# EAGLE library part SPARKFUN-SENSORS_MPU-9250 (library cortex-mpu)
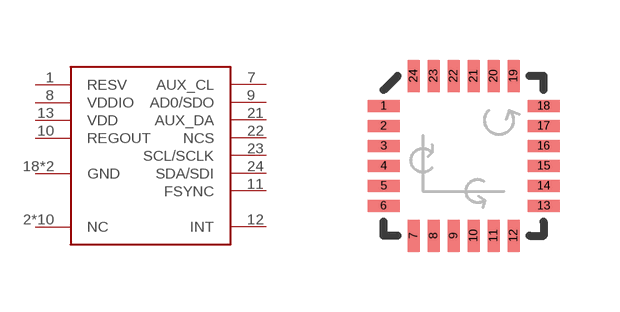
[diagram p3: symbol with the pads of SPARKFUN-SENSORS_QFN-24-NP; footprint SPARKFUN-SENSORS_QFN-24-NP]

Designator prefix -

## SPARKFUN-SENSORS_MPU-9250  [SPARKFUN-SENSORS_QFN-24-NP]
1  RESV
2  NC
3  NC
4  NC
5  NC
6  NC
7  AUX_CL
8  VDDIO
9  AD0/SDO
10  REGOUT
11  FSYNC
12  INT
13  VDD
14  NC
15  NC
16  NC
17  NC
18  GND
19  NC
20  GND
21  AUX_DA
22  NCS
23  SCL/SCLK
24  SDA/SDI

## Footprint SPARKFUN-SENSORS_QFN-24-NP (pad centres in mm)
smd 0.8 x 0.3: 1 -2,1.25; 2 -2,0.75; 3 -2,0.25; 4 -2,-0.25; 5 -2,-0.75; 6 -2,-1.25; 13 2,-1.25; 14 2,-0.75; 15 2,-0.25; 16 2,0.25; 17 2,0.75; 18 2,1.25
smd 0.3 x 0.8: 7 -1.25,-2; 8 -0.75,-2; 9 -0.25,-2; 10 0.25,-2; 11 0.75,-2; 12 1.25,-2; 19 1.25,2; 20 0.75,2; 21 0.25,2; 22 -0.25,2; 23 -0.75,2; 24 -1.25,2